# Altium integrated library WS-RPTL 20x20 mm illuminated THT Rotary Push button Switch.IntLib: 1 symbol
Pins are listed as number, name and electrical type; pins without a type are passive.

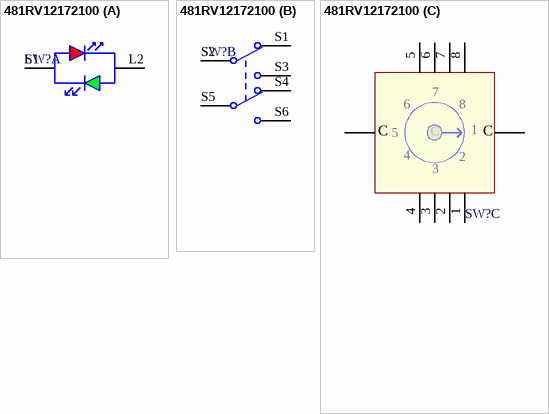
[diagram p0: symbol 481RV12172100]

## 481RV12172100
designator SW?
WS-RPTL 20 x 20mm Rotary / Push Button Switch with integrated LED, THT version; PartNumber: 481RV12172100; PackageReference: 481RV12172100; ComponentLink1Description: Manufacturer URL; ComponentLink1URL: http://www.we-online.com; ComponentLink2Description: Datasheet; ComponentLink2URL: http://katalog.we-online.de/em/datasheet/481RV12172100.pdf
footprint 481RV12172100 (15x15mm vertical center type, THT, height 19.5mm, 12*12mm actuator, SPST, red/green Bi-color LED, with boss design, Tray)
part A pins: L1, L2
part B pins: S1, S2, S3, S4, S5, S6
part C pins: 1, 2, 3, 4, 5, 6, 7, 8, C1, C2
part C text: C